# EAGLE library part 691336500016 (library WR-TBL Pluggable Connector)
WR-TBL Serie 3365 - 5.08 mm Double Level Vertical Header with Flanges KIND PROPERTIES Pitch 5.08 mm MATERIAL PROPERTIES Insulator Material PA66 Insulator Flammability Rating UL94 V-0 Contact Material Brass Contact Plating Tin GENERAL INFORMATION Operating Temperature -40 up to +105 °C Compliance RoHS ELECTRICAL PROPERTIES IR UL 15 A Working Voltage [UL] 300 V (AC) Withstanding Voltage [cULus] 1600 V (AC) Contact Resistance [cULus] 20 mΩ CERTIFICATION cULus Approval E315414 <https://www.we-online.com/catalog/media/o33288v209%20Family_WR-TBL_6913365000xx.jpg> Details see: https://www.we-online.com/catalog/en/TBL_5_08_3365_DOUBLE_LEVEL_VERTICAL_HEADER_W_FLANGES_6913365000XX/ Updated by Ella Wu 2019-12-25 2022(C) Wurth Elektronik
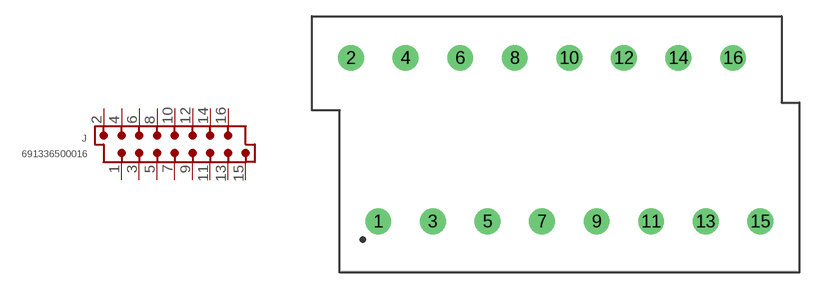
[diagram p251: symbol with the pads of 691336500016; footprint 691336500016]

Designator prefix J

## 691336500016 (DATASHEET-URL: https://www.we-online.com/redexpert/spec/691336500016?ae; IR-UL: 15A; MOUNT: THT; PART-NUMBER: 691336500016; PINS: 16; PITCH: 5.08mm; TYPE: Double Level Vertical; VALUE: 691336500016; WORKING-VOLTAGE-UL: 300V (AC))  [691336500016]
1  1  pas
2  2  pas
3  3  pas
4  4  pas
5  5  pas
6  6  pas
7  7  pas
8  8  pas
9  9  pas
10  10  pas
11  11  pas
12  12  pas
13  13  pas
14  14  pas
15  15  pas
16  16  pas

## Footprint 691336500016 (pad centres in mm)
WR-TBL Serie 3365 - 5.08 mm Double Level Vertical Header with Flanges Max Height = 22mm , Pitch 5.08mm , 16pins
drill 1.6: 1 -17.78,-7.62; 2 -20.32,7.62; 3 -12.7,-7.62; 4 -15.24,7.62; 5 -7.62,-7.62; 6 -10.16,7.62; 7 -2.54,-7.62; 8 -5.08,7.62; 9 2.54,-7.62; 10 0,7.62; 11 7.62,-7.62; 12 5.08,7.62; 13 12.7,-7.62; 14 10.16,7.62; 15 17.78,-7.62; 16 15.24,7.62